# EAGLE library part LTC4066 (library Pinoccio)
Linear Technology LTC4066 USB Power Controller and Li-Ion Charger Packages: QFN-24
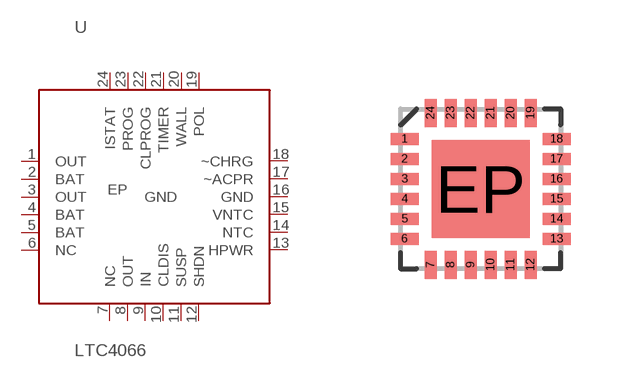
[diagram p13: symbol with the pads of QFN-24; footprint QFN-24]

Designator prefix U

## LTC4066QFN-24  [QFN-24]
1  OUT
2  BAT
3  OUT
4  BAT
5  BAT
6  NC
7  NC
8  OUT
9  IN
10  CLDIS
11  SUSP
12  SHDN
13  HPWR
14  NTC
15  VNTC
16  GND
17  ~ACPR
18  ~CHRG
19  POL
20  WALL
21  TIMER
22  CLPROG
23  PROG
24  ISTAT
EP  GND

## Footprint QFN-24 (pad centres in mm)
24-pin QFN with Exposed Thermal pad Parts that use this package: A6282 Last modified: 8/20/10 ***UNPROVEN***
smd 0.7 x 0.3: 1 -1.9,1.25; 2 -1.9,0.75; 3 -1.9,0.25; 4 -1.9,-0.25; 5 -1.9,-0.75; 6 -1.9,-1.25; 13 1.9,-1.25; 14 1.9,-0.75; 15 1.9,-0.25; 16 1.9,0.25; 17 1.9,0.75; 18 1.9,1.25
smd 0.3 x 0.7: 7 -1.25,-1.9; 8 -0.75,-1.9; 9 -0.25,-1.9; 10 0.25,-1.9; 11 0.75,-1.9; 12 1.25,-1.9; 19 1.25,1.9; 20 0.75,1.9; 21 0.25,1.9; 22 -0.25,1.9; 23 -0.75,1.9; 24 -1.25,1.9
smd 2.45 x 2.45: EP 0,0